# Altium footprint library WR-TBL_Spring Clamp_3.50mm.PcbLib: 77 footprints (part 1 of 5)
Each footprint in its own frame and in the unit in brackets; x right, y up, seen from the top. Pads: shape width x height; smd on the part's side, far side on the other; paste and mask are expansions set on the pad; w line width, h text height; cw(c..) or ccw(c..) is an arc to the next point about the centre after c.
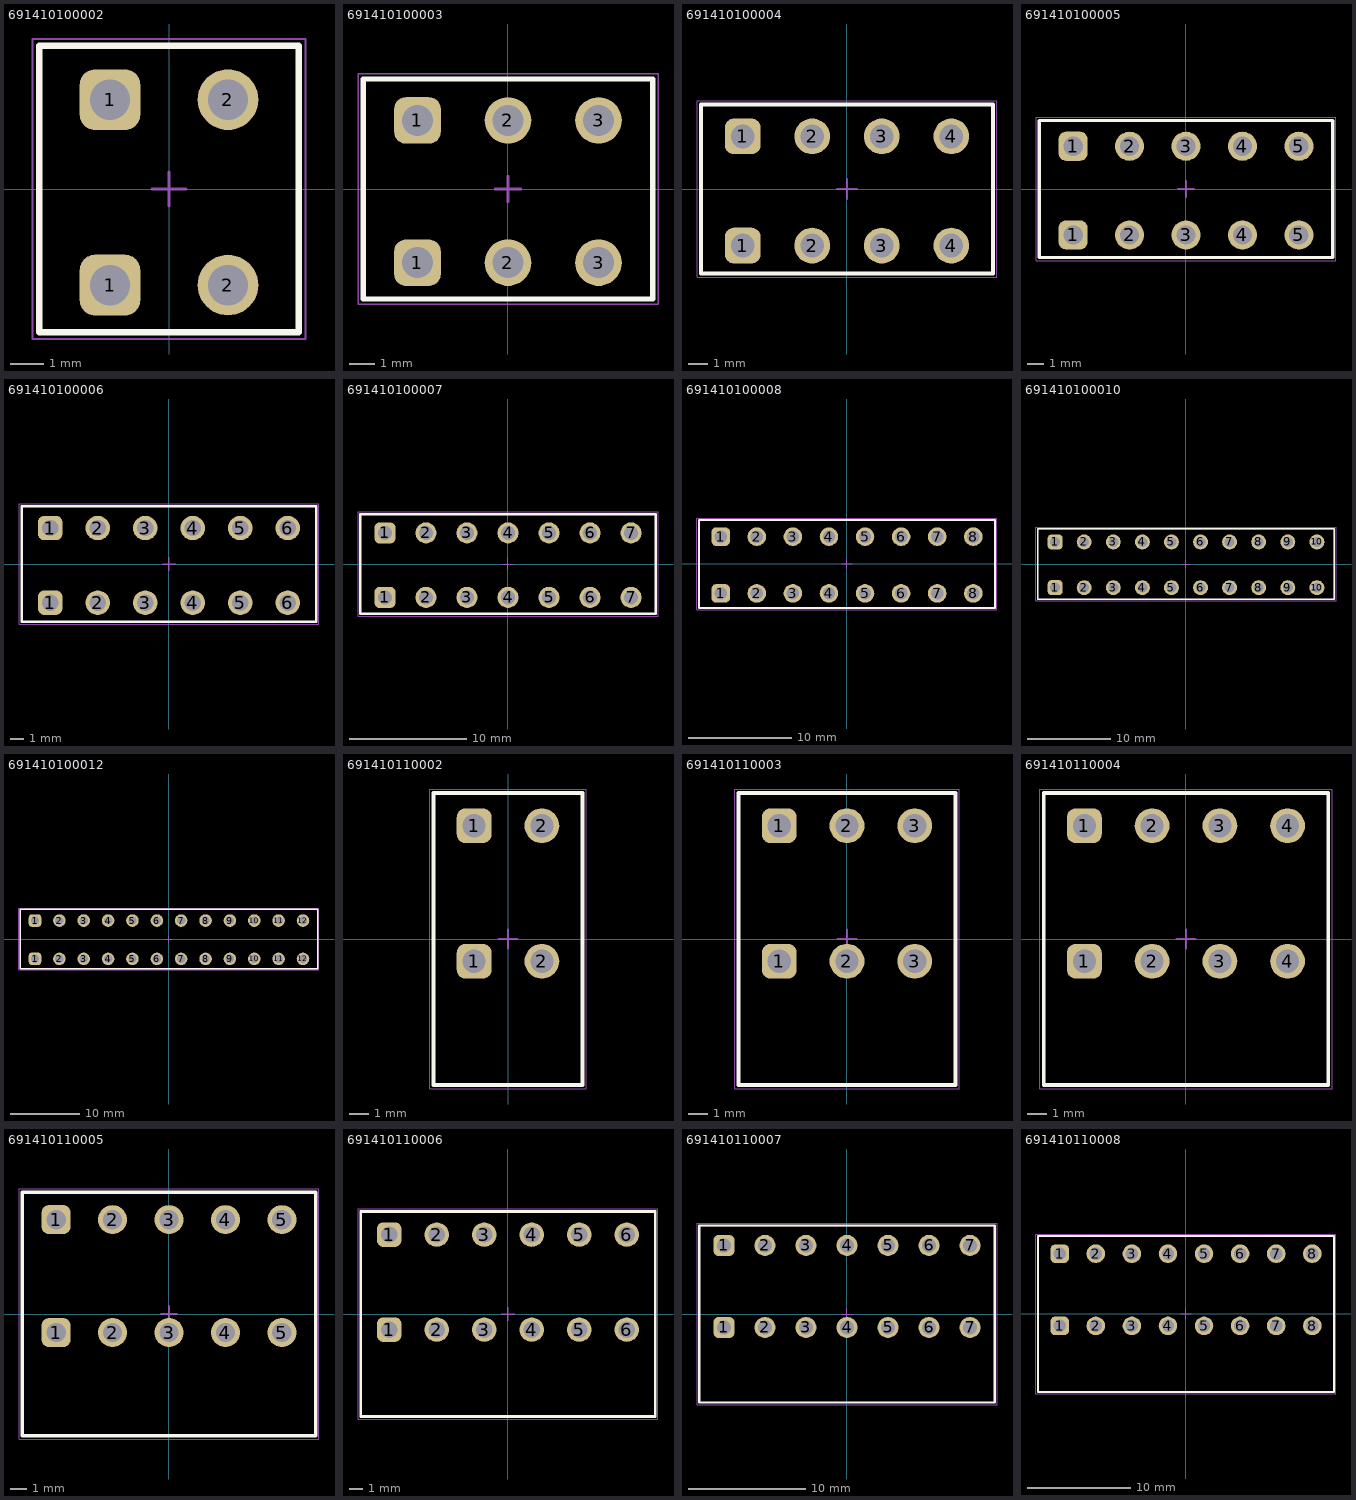
[diagram p0: the footprints below, top view; thin cyan lines are the x and y axes]

## 691410100002 [mm] "Terminal Block, Black, Screwless Vertical, pitch 3.5mm, 2p"
height 15.1
pads (4):
  rrect50% 1.8x1.8 hole 1.2: 1(-1.75,-2.85) 1(-1.75,2.65)
  round 1.8 hole 1.2: 2(1.75,-2.85) 2(1.75,2.65)
Top Overlay:
  lines w0.2: -3.85,-4.25 3.85,-4.25 3.85,4.25 -3.85,4.25 -3.85,-4.25
Top Assembly:
  lines w0.1: -3.85,-4.25 3.85,-4.25 3.85,4.25 -3.85,4.25 -3.85,-4.25
Top Designator:
  text ".Designator" at -3.647,-0.357 h1
Top 3D Body:
  lines w0.1: -3.85,-4.25 3.85,-4.25 3.85,4.25 -3.85,4.25 -3.85,-4.25
Top Courtyard:
  lines w0.05: -4.05,-4.45 -4.05,4.45 4.05,4.45 4.05,-4.45 -4.05,-4.45
Top Component Center:
  lines w0.1: -0.5,0 0.5,0 ; 0,-0.5 0,0.5
3D body "691410100002.stp": height 15.2, standoff -3.4, extent -3.85,-4.25 3.85,4.25

## 691410100003 [mm] "Terminal Block, Black, Screwless Vertical, pitch 3.5mm, 3p"
height 15.1
pads (6):
  rrect50% 1.8x1.8 hole 1.2: 1(-3.5,-2.85) 1(-3.5,2.65)
  round 1.8 hole 1.2: 2(0,-2.85) 2(0,2.65) 3(3.5,-2.85) 3(3.5,2.65)
Top Overlay:
  lines w0.2: -5.6,-4.25 -5.6,4.25 5.6,4.25 5.6,-4.25 -5.6,-4.25
Top Assembly:
  lines w0.1: -5.6,-4.25 -5.6,4.25 5.6,4.25 5.6,-4.25 -5.6,-4.25
Top Designator:
  text ".Designator" at -3.647,-0.357 h1
Top 3D Body:
  lines w0.1: -5.6,-4.25 -5.6,4.25 5.6,4.25 5.6,-4.25 -5.6,-4.25
Top Courtyard:
  lines w0.05: -5.8,-4.45 5.8,-4.45 5.8,4.45 -5.8,4.45 -5.8,-4.45
Top Component Center:
  lines w0.1: -0.5,0 0.5,0 ; 0,-0.5 0,0.5
3D body "691410100003.stp": height 15.2, standoff -3.4, extent -5.6,-4.25 5.6,4.25

## 691410100004 [mm] "Terminal Block, Black, Screwless Vertical, pitch 3.5mm, 4p"
height 15.1
pads (8):
  rrect50% 1.8x1.8 hole 1.2: 1(-5.25,-2.85) 1(-5.25,2.65)
  round 1.8 hole 1.2: 2(-1.75,-2.85) 2(-1.75,2.65) 3(1.75,-2.85) 3(1.75,2.65) 4(5.25,-2.85) 4(5.25,2.65)
Top Overlay:
  lines w0.2: -7.35,-4.25 -7.35,4.25 7.35,4.25 7.35,-4.25 -7.35,-4.25
Top Assembly:
  lines w0.1: -7.35,-4.25 -7.35,4.25 7.35,4.25 7.35,-4.25 -7.35,-4.25
Top Designator:
  text ".Designator" at -3.647,-0.357 h1
Top 3D Body:
  lines w0.1: -7.35,-4.25 -7.35,4.25 7.35,4.25 7.35,-4.25 -7.35,-4.25
Top Courtyard:
  lines w0.05: -7.55,-4.45 7.55,-4.45 7.55,4.45 -7.55,4.45 -7.55,-4.45
Top Component Center:
  lines w0.1: -0.5,0 0.5,0 ; 0,-0.5 0,0.5
3D body "691410100004.stp": height 15.2, standoff -3.4, extent -7.35,-4.25 7.35,4.25

## 691410100005 [mm] "Terminal Block, Black, Screwless Vertical, pitch 3.5mm, 5p"
height 15.1
pads (10):
  rrect50% 1.8x1.8 hole 1.2: 1(-7,-2.85) 1(-7,2.65)
  round 1.8 hole 1.2: 2(-3.5,-2.85) 2(-3.5,2.65) 3(0,-2.85) 3(0,2.65) 4(3.5,-2.85) 4(3.5,2.65) 5(7,-2.85) 5(7,2.65)
Top Overlay:
  lines w0.2: -9.1,-4.25 -9.1,4.25 9.1,4.25 9.1,-4.25 -9.1,-4.25
Top Assembly:
  lines w0.1: -9.1,-4.25 -9.1,4.25 9.1,4.25 9.1,-4.25 -9.1,-4.25
Top Designator:
  text ".Designator" at -3.647,-0.357 h1
Top 3D Body:
  lines w0.1: -9.1,-4.25 -9.1,4.25 9.1,4.25 9.1,-4.25 -9.1,-4.25
Top Courtyard:
  lines w0.05: -9.3,-4.45 9.3,-4.45 9.3,4.45 -9.3,4.45 -9.3,-4.45
Top Component Center:
  lines w0.1: -0.5,0 0.5,0 ; 0,-0.5 0,0.5
3D body "691410100005.stp": height 15.2, standoff -3.4, extent -9.1,-4.25 9.1,4.25

## 691410100006 [mm] "Terminal Block, Black, Screwless Vertical, pitch 3.5mm, 6p"
height 15.1
pads (12):
  rrect50% 1.8x1.8 hole 1.2: 1(-8.75,-2.85) 1(-8.75,2.65)
  round 1.8 hole 1.2: 2(-5.25,-2.85) 2(-5.25,2.65) 3(-1.75,-2.85) 3(-1.75,2.65) 4(1.75,-2.85) 4(1.75,2.65) 5(5.25,-2.85) 5(5.25,2.65) 6(8.75,-2.85) 6(8.75,2.65)
Top Overlay:
  lines w0.2: -10.85,-4.25 -10.85,4.25 10.85,4.25 10.85,-4.25 -10.85,-4.25
Top Assembly:
  lines w0.1: -10.85,-4.25 -10.85,4.25 10.85,4.25 10.85,-4.25 -10.85,-4.25
Top Designator:
  text ".Designator" at -3.647,-0.357 h1
Top 3D Body:
  lines w0.1: -10.85,-4.25 -10.85,4.25 10.85,4.25 10.85,-4.25 -10.85,-4.25
Top Courtyard:
  lines w0.05: -11.05,-4.45 11.05,-4.45 11.05,4.45 -11.05,4.45 -11.05,-4.45
Top Component Center:
  lines w0.1: -0.5,0 0.5,0 ; 0,-0.5 0,0.5
3D body "691410100006.stp": height 15.2, standoff -3.4, extent -10.85,-4.25 10.85,4.25

## 691410100007 [mm] "Terminal Block, Black, Screwless Vertical, pitch 3.5mm, 7p"
height 15.1
pads (14):
  rrect50% 1.8x1.8 hole 1.2: 1(-10.5,-2.85) 1(-10.5,2.65)
  round 1.8 hole 1.2: 2(-7,-2.85) 2(-7,2.65) 3(-3.5,-2.85) 3(-3.5,2.65) 4(0,-2.85) 4(0,2.65) 5(3.5,-2.85) 5(3.5,2.65) 6(7,-2.85) 6(7,2.65) 7(10.5,-2.85) 7(10.5,2.65)
Top Overlay:
  lines w0.2: -12.6,-4.25 12.6,-4.25 12.6,4.25 -12.6,4.25 -12.6,-4.25
Top Assembly:
  lines w0.1: -12.6,-4.25 12.6,-4.25 12.6,4.25 -12.6,4.25 -12.6,-4.25
Top Designator:
  text ".Designator" at -3.647,-0.357 h1
Top 3D Body:
  lines w0.1: -12.6,-4.25 12.6,-4.25 12.6,4.25 -12.6,4.25 -12.6,-4.25
Top Courtyard:
  lines w0.05: -12.8,-4.45 -12.8,4.45 12.8,4.45 12.8,-4.45 -12.8,-4.45
Top Component Center:
  lines w0.1: -0.5,0 0.5,0 ; 0,-0.5 0,0.5
3D body "691410100007.stp": height 15.2, standoff -3.4, extent -12.6,-4.25 12.6,4.25

## 691410100008 [mm] "Terminal Block, Black, Screwless Vertical, pitch 3.5mm, 8p"
height 15.1
pads (16):
  rrect50% 1.8x1.8 hole 1.2: 1(-12.25,-2.85) 1(-12.25,2.65)
  round 1.8 hole 1.2: 2(-8.75,-2.85) 2(-8.75,2.65) 3(-5.25,-2.85) 3(-5.25,2.65) 4(-1.75,-2.85) 4(-1.75,2.65) 5(1.75,-2.85) 5(1.75,2.65) 6(5.25,-2.85) 6(5.25,2.65) 7(8.75,-2.85) 7(8.75,2.65) 8(12.25,-2.85) 8(12.25,2.65)
Top Overlay:
  lines w0.2: -14.35,-4.25 14.35,-4.25 14.35,4.25 -14.35,4.25 -14.35,-4.25
Top Assembly:
  lines w0.1: -14.35,-4.25 14.35,-4.25 14.35,4.25 -14.35,4.25 -14.35,-4.25
Top Designator:
  text ".Designator" at -3.647,-0.357 h1
Top 3D Body:
  lines w0.1: -14.35,-4.25 14.35,-4.25 14.35,4.25 -14.35,4.25 -14.35,-4.25
Top Courtyard:
  lines w0.05: -14.55,-4.45 -14.55,4.45 14.55,4.45 14.55,-4.45 -14.55,-4.45
Top Component Center:
  lines w0.1: -0.5,0 0.5,0 ; 0,-0.5 0,0.5
3D body "691410100008.stp": height 15.2, standoff -3.4, extent -14.35,-4.25 14.35,4.25

## 691410100010 [mm] "Terminal Block, Black, Screwless Vertical, pitch 3.5mm, 10p"
height 15.1
pads (20):
  rrect50% 1.8x1.8 hole 1.2: 1(-15.75,-2.85) 1(-15.75,2.65)
  round 1.8 hole 1.2: 2(-12.25,-2.85) 2(-12.25,2.65) 3(-8.75,-2.85) 3(-8.75,2.65) 4(-5.25,-2.85) 4(-5.25,2.65) 5(-1.75,-2.85) 5(-1.75,2.65) 6(1.75,-2.85) 6(1.75,2.65) 7(5.25,-2.85) 7(5.25,2.65) 8(8.75,-2.85) 8(8.75,2.65) 9(12.25,-2.85) 9(12.25,2.65) 10(15.75,-2.85) 10(15.75,2.65)
Top Overlay:
  lines w0.2: -17.85,-4.25 17.85,-4.25 17.85,4.25 -17.85,4.25 -17.85,-4.25
Top Assembly:
  lines w0.1: -17.85,-4.25 17.85,-4.25 17.85,4.25 -17.85,4.25 -17.85,-4.25
Top Designator:
  text ".Designator" at -3.647,-0.357 h1
Top 3D Body:
  lines w0.1: -17.85,-4.25 17.85,-4.25 17.85,4.25 -17.85,4.25 -17.85,-4.25
Top Courtyard:
  lines w0.05: -18.05,-4.45 -18.05,4.45 18.05,4.45 18.05,-4.45 -18.05,-4.45
Top Component Center:
  lines w0.1: -0.5,0 0.5,0 ; 0,-0.5 0,0.5
3D body "691410100010.stp": height 15.2, standoff -3.4, extent -17.85,-4.25 17.85,4.25

## 691410100012 [mm] "Terminal Block, Black, Screwless Vertical, pitch 3.5mm, 12p"
height 15.1
pads (24):
  rrect50% 1.8x1.8 hole 1.2: 1(-19.25,-2.85) 1(-19.25,2.65)
  round 1.8 hole 1.2: 2(-15.75,-2.85) 2(-15.75,2.65) 3(-12.25,-2.85) 3(-12.25,2.65) 4(-8.75,-2.85) 4(-8.75,2.65) 5(-5.25,-2.85) 5(-5.25,2.65) 6(-1.75,-2.85) 6(-1.75,2.65) 7(1.75,-2.85) 7(1.75,2.65) 8(5.25,-2.85) 8(5.25,2.65) 9(8.75,-2.85) 9(8.75,2.65) 10(12.25,-2.85) 10(12.25,2.65) 11(15.75,-2.85) 11(15.75,2.65) 12(19.25,-2.85) 12(19.25,2.65)
Top Overlay:
  lines w0.2: -21.35,-4.25 21.35,-4.25 21.35,4.25 -21.35,4.25 -21.35,-4.25
Top Assembly:
  lines w0.1: -21.35,-4.25 21.35,-4.25 21.35,4.25 -21.35,4.25 -21.35,-4.25
Top Designator:
  text ".Designator" at -3.647,-0.357 h1
Top 3D Body:
  lines w0.1: -21.35,-4.25 21.35,-4.25 21.35,4.25 -21.35,4.25 -21.35,-4.25
Top Courtyard:
  lines w0.05: -21.55,-4.45 -21.55,4.45 21.55,4.45 21.55,-4.45 -21.55,-4.45
Top Component Center:
  lines w0.1: -0.5,0 0.5,0 ; 0,-0.5 0,0.5
3D body "691410100012.stp": height 15.2, standoff -3.4, extent -21.35,-4.25 21.35,4.25

## 691410110002 [mm] "Terminal Block, Black, Screwless Horizontal, pitch 3.5mm, 2p"
height 8.5
pads (4):
  rrect50% 1.8x1.8 hole 1.2: 1(-1.75,-1.15) 1(-1.75,5.85)
  round 1.8 hole 1.2: 2(1.75,-1.15) 2(1.75,5.85)
Top Overlay:
  lines w0.2: -3.85,-7.55 -3.85,7.55 3.85,7.55 3.85,-7.55 -3.85,-7.55
Top Assembly:
  lines w0.1: -3.85,-7.55 3.85,-7.55 3.85,7.55 -3.85,7.55 -3.85,-7.55
Top Designator:
  text ".Designator" at -3.647,-0.357 h1
Top 3D Body:
  lines w0.1: -3.85,-7.55 3.85,-7.55 3.85,7.55 -3.85,7.55 -3.85,-7.55
Top Courtyard:
  lines w0.05: -4.05,-7.75 -4.05,7.75 4.05,7.75 4.05,-7.75 -4.05,-7.75
Top Component Center:
  lines w0.1: -0.5,0 0.5,0 ; 0,-0.5 0,0.5
3D body "691410110002.stp": height 8.58, standoff -3.42, extent -3.85,-7.55 3.85,7.55

## 691410110003 [mm] "Terminal Block, Black, Screwless Horizontal, pitch 3.5mm, 3p"
height 8.5
pads (6):
  rrect50% 1.8x1.8 hole 1.2: 1(-3.5,-1.15) 1(-3.5,5.85)
  round 1.8 hole 1.2: 2(0,-1.15) 2(0,5.85) 3(3.5,-1.15) 3(3.5,5.85)
Top Overlay:
  lines w0.2: -5.6,-7.55 5.6,-7.55 5.6,7.55 -5.6,7.55 -5.6,-7.55
Top Assembly:
  lines w0.1: -5.6,-7.55 -5.6,7.55 5.6,7.55 5.6,-7.55 -5.6,-7.55
Top Designator:
  text ".Designator" at -3.647,-0.357 h1
Top 3D Body:
  lines w0.1: -5.6,-7.55 -5.6,7.55 5.6,7.55 5.6,-7.55 -5.6,-7.55
Top Courtyard:
  lines w0.05: -5.8,-7.75 5.8,-7.75 5.8,7.75 -5.8,7.75 -5.8,-7.75
Top Component Center:
  lines w0.1: -0.5,0 0.5,0 ; 0,-0.5 0,0.5
3D body "691410110003.stp": height 8.58, standoff -3.42, extent -5.6,-7.55 5.6,7.55

## 691410110004 [mm] "Terminal Block, Black, Screwless Horizontal, pitch 3.5mm, 4p"
height 8.5
pads (8):
  rrect50% 1.8x1.8 hole 1.2: 1(-5.25,-1.15) 1(-5.25,5.85)
  round 1.8 hole 1.2: 2(-1.75,-1.15) 2(-1.75,5.85) 3(1.75,-1.15) 3(1.75,5.85) 4(5.25,-1.15) 4(5.25,5.85)
Top Overlay:
  lines w0.2: -7.35,-7.55 7.35,-7.55 7.35,7.55 -7.35,7.55 -7.35,-7.55
Top Assembly:
  lines w0.1: -7.35,-7.55 -7.35,7.55 7.35,7.55 7.35,-7.55 -7.35,-7.55
Top Designator:
  text ".Designator" at -3.647,-0.357 h1
Top 3D Body:
  lines w0.1: -7.35,-7.55 -7.35,7.55 7.35,7.55 7.35,-7.55 -7.35,-7.55
Top Courtyard:
  lines w0.05: -7.55,-7.75 7.55,-7.75 7.55,7.75 -7.55,7.75 -7.55,-7.75
Top Component Center:
  lines w0.1: -0.5,0 0.5,0 ; 0,-0.5 0,0.5
3D body "691410110004.stp": height 8.58, standoff -3.42, extent -7.35,-7.55 7.35,7.55

## 691410110005 [mm] "Terminal Block, Black, Screwless Horizontal, pitch 3.5mm, 5p"
height 8.5
pads (10):
  rrect50% 1.8x1.8 hole 1.2: 1(-7,-1.15) 1(-7,5.85)
  round 1.8 hole 1.2: 2(-3.5,-1.15) 2(-3.5,5.85) 3(0,-1.15) 3(0,5.85) 4(3.5,-1.15) 4(3.5,5.85) 5(7,-1.15) 5(7,5.85)
Top Overlay:
  lines w0.2: -9.1,-7.55 9.1,-7.55 9.1,7.55 -9.1,7.55 -9.1,-7.55
Top Assembly:
  lines w0.1: -9.1,-7.55 -9.1,7.55 9.1,7.55 9.1,-7.55 -9.1,-7.55
Top Designator:
  text ".Designator" at -3.647,-0.357 h1
Top 3D Body:
  lines w0.1: -9.1,-7.55 -9.1,7.55 9.1,7.55 9.1,-7.55 -9.1,-7.55
Top Courtyard:
  lines w0.05: -9.3,-7.75 9.3,-7.75 9.3,7.75 -9.3,7.75 -9.3,-7.75
Top Component Center:
  lines w0.1: -0.5,0 0.5,0 ; 0,-0.5 0,0.5
3D body "691410110005.stp": height 8.58, standoff -3.42, extent -9.1,-7.55 9.1,7.55

## 691410110006 [mm] "Terminal Block, Black, Screwless Horizontal, pitch 3.5mm, 6p"
height 8.5
pads (12):
  rrect50% 1.8x1.8 hole 1.2: 1(-8.75,-1.15) 1(-8.75,5.85)
  round 1.8 hole 1.2: 2(-5.25,-1.15) 2(-5.25,5.85) 3(-1.75,-1.15) 3(-1.75,5.85) 4(1.75,-1.15) 4(1.75,5.85) 5(5.25,-1.15) 5(5.25,5.85) 6(8.75,-1.15) 6(8.75,5.85)
Top Overlay:
  lines w0.2: -10.85,-7.55 -10.85,7.55 10.85,7.55 10.85,-7.55 -10.85,-7.55
Top Assembly:
  lines w0.1: -10.85,-7.55 10.85,-7.55 10.85,7.55 -10.85,7.55 -10.85,-7.55
Top Designator:
  text ".Designator" at -3.647,-0.357 h1
Top 3D Body:
  lines w0.1: -10.85,-7.55 10.85,-7.55 10.85,7.55 -10.85,7.55 -10.85,-7.55
Top Courtyard:
  lines w0.05: -11.05,-7.75 -11.05,7.75 11.05,7.75 11.05,-7.75 -11.05,-7.75
Top Component Center:
  lines w0.1: -0.5,0 0.5,0 ; 0,-0.5 0,0.5
3D body "691410110006.stp": height 8.58, standoff -3.42, extent -10.85,-7.55 10.85,7.55

## 691410110007 [mm] "Terminal Block, Black, Screwless Horizontal, pitch 3.5mm, 7p"
height 8.5
pads (14):
  rrect50% 1.8x1.8 hole 1.2: 1(-10.5,-1.15) 1(-10.5,5.85)
  round 1.8 hole 1.2: 2(-7,-1.15) 2(-7,5.85) 3(-3.5,-1.15) 3(-3.5,5.85) 4(0,-1.15) 4(0,5.85) 5(3.5,-1.15) 5(3.5,5.85) 6(7,-1.15) 6(7,5.85) 7(10.5,-1.15) 7(10.5,5.85)
Top Overlay:
  lines w0.2: -12.6,-7.55 -12.6,7.55 12.6,7.55 12.6,-7.55 -12.6,-7.55
Top Assembly:
  lines w0.1: -12.6,-7.55 12.6,-7.55 12.6,7.55 -12.6,7.55 -12.6,-7.55
Top Designator:
  text ".Designator" at -3.647,-0.357 h1
Top 3D Body:
  lines w0.1: -12.6,-7.55 12.6,-7.55 12.6,7.55 -12.6,7.55 -12.6,-7.55
Top Courtyard:
  lines w0.05: -12.8,-7.75 -12.8,7.75 12.8,7.75 12.8,-7.75 -12.8,-7.75
Top Component Center:
  lines w0.1: -0.5,0 0.5,0 ; 0,-0.5 0,0.5
3D body "691410110007.stp": height 8.58, standoff -3.42, extent -12.6,-7.55 12.6,7.55

## 691410110008 [mm] "Terminal Block, Black, Screwless Horizontal, pitch 3.5mm, 8p"
height 8.5
pads (16):
  rrect50% 1.8x1.8 hole 1.2: 1(-12.25,-1.15) 1(-12.25,5.85)
  round 1.8 hole 1.2: 2(-8.75,-1.15) 2(-8.75,5.85) 3(-5.25,-1.15) 3(-5.25,5.85) 4(-1.75,-1.15) 4(-1.75,5.85) 5(1.75,-1.15) 5(1.75,5.85) 6(5.25,-1.15) 6(5.25,5.85) 7(8.75,-1.15) 7(8.75,5.85) 8(12.25,-1.15) 8(12.25,5.85)
Top Overlay:
  lines w0.2: -14.35,-7.55 -14.35,7.55 14.35,7.55 14.35,-7.55 -14.35,-7.55
Top Assembly:
  lines w0.1: -14.35,-7.55 14.35,-7.55 14.35,7.55 -14.35,7.55 -14.35,-7.55
Top Designator:
  text ".Designator" at -3.647,-0.357 h1
Top 3D Body:
  lines w0.1: -14.35,-7.55 14.35,-7.55 14.35,7.55 -14.35,7.55 -14.35,-7.55
Top Courtyard:
  lines w0.05: -14.55,-7.75 -14.55,7.75 14.55,7.75 14.55,-7.75 -14.55,-7.75
Top Component Center:
  lines w0.1: -0.5,0 0.5,0 ; 0,-0.5 0,0.5
3D body "691410110008.stp": height 8.58, standoff -3.42, extent -14.35,-7.55 14.35,7.55